# EAGLE library part AD9629 (library ICs)
12-Bit, 40 MSPS, 1.8 V Analog-to-Digital Converter
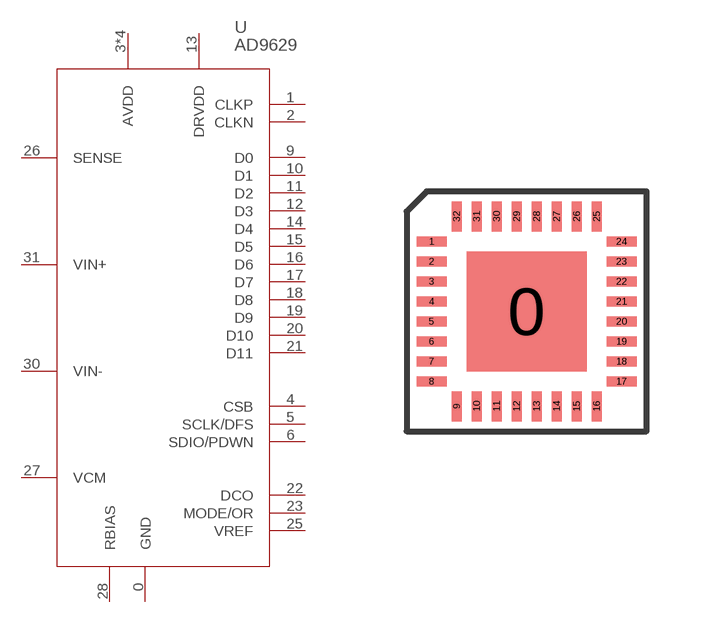
[diagram p181: symbol with the pads of QFN32; footprint QFN32]

Designator prefix U

## AD9629 (DIGIKEY: AD9629BCPZ-40-ND; HEIGHT: 0.8; PRICE_PER: 11.36; VALUE: AD9629)  [QFN32]
0  GND
1  CLKP
2  CLKN
3  AVDD
4  CSB
5  SCLK/DFS
6  SDIO/PDWN
9  D0
10  D1
11  D2
12  D3
13  DRVDD
14  D4
15  D5
16  D6
17  D7
18  D8
19  D9
20  D10
21  D11
22  DCO
23  MODE/OR
24  AVDD
25  VREF
26  SENSE
27  VCM
28  RBIAS
29  AVDD
30  VIN-
31  VIN+
32  AVDD

## Footprint QFN32 (pad centres in mm)
smd 3 x 3: 0 0,0
smd 0.75 x 0.25: 1 -2.375,1.75; 2 -2.375,1.25; 3 -2.375,0.75; 4 -2.375,0.25; 5 -2.375,-0.25; 6 -2.375,-0.75; 7 -2.375,-1.25; 8 -2.375,-1.75; 17 2.375,-1.75; 18 2.375,-1.25; 19 2.375,-0.75; 20 2.375,-0.25; 21 2.375,0.25; 22 2.375,0.75; 23 2.375,1.25; 24 2.375,1.75
smd 0.25 x 0.75: 9 -1.75,-2.375; 10 -1.25,-2.375; 11 -0.75,-2.375; 12 -0.25,-2.375; 13 0.25,-2.375; 14 0.75,-2.375; 15 1.25,-2.375; 16 1.75,-2.375; 25 1.75,2.375; 26 1.25,2.375; 27 0.75,2.375; 28 0.25,2.375; 29 -0.25,2.375; 30 -0.75,2.375; 31 -1.25,2.375; 32 -1.75,2.375